# Altium footprint library PcbLib.PcbLib: 18 footprints (part 1 of 2)
Each footprint in its own frame and in the unit in brackets; x right, y up, seen from the top. Pads: shape width x height; smd on the part's side, far side on the other; paste and mask are expansions set on the pad; w line width, h text height; cw(c..) or ccw(c..) is an arc to the next point about the centre after c.
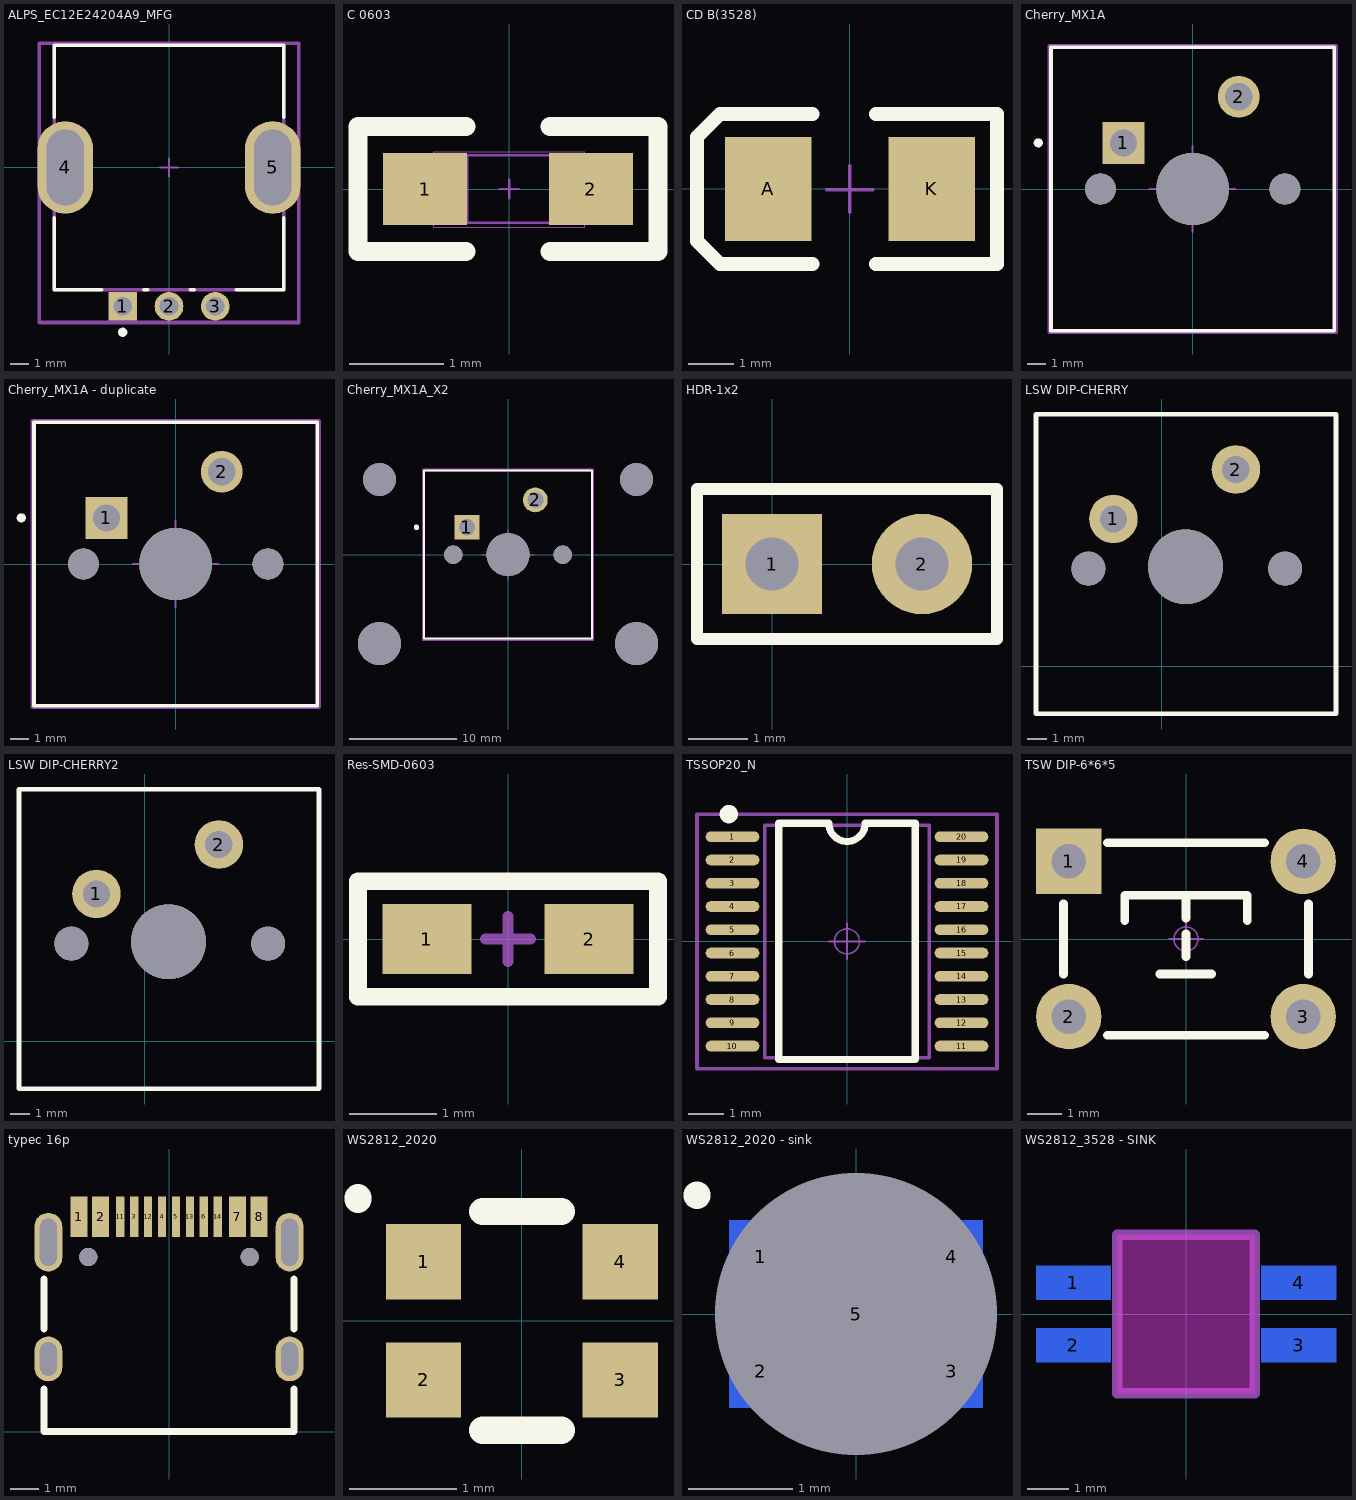
[diagram p0: the footprints below, top view; thin cyan lines are the x and y axes]

## ALPS_EC12E24204A9_MFG [mm]
pads (5):
  rect 1.55x1.55 hole 1 paste-1000 mask+0: 1(-2.5,-7.5)
  round 1.55 hole 1 paste-1000 mask+0: 2(0,-7.5) 3(2.5,-7.5)
  rrect100% 3x5 hole 4.1 slot 2 at 0 deg paste-1000 mask+0: 4(-5.6,0) 5(5.6,0)
Top Overlay:
  circle w0.25: c-2.5,-8.9 r0.125
  lines w0.2: -6.2,-2.725 -6.2,-6.6 -3.65,-6.6 ; -6.2,2.725 -6.2,6.6 6.2,6.6 6.2,2.725 ; -1.35,-6.6 -1.15,-6.6 ; 1.15,-6.6 1.35,-6.6 ; 3.65,-6.6 6.2,-6.6 6.2,-2.725
Mechanical 10:
  lines w0.2: -7,-8.375 7,-8.375 7,6.7 -7,6.7 -7,-8.375
Mechanical 12:
  lines w0.2: -6.2,-6.6 6.2,-6.6 6.2,6.6 -6.2,6.6 -6.2,-6.6
Mechanical 15:
  lines w0.1: -0.5,0 0.5,0 ; 0,-0.5 0,0.5
  lines w0.2: -7,-8.375 7,-8.375 7,6.7 -7,6.7 -7,-8.375
3D body "Enc_ALPS_EC12E24204A9_eec.STEP": height 0.25, standoff 0, extent -7,-8.375 7,6.7

## C 0603 [mil] "无极性贴片电容"
pads (2):
  rect 35x30 smd: 1(-35,0) 2(34,0)
Top Overlay:
  lines w8: -18,-26 -63,-26 -63,26 -18,26 ; 17,-26 62,-26 62,26 17,26
Mechanical 13:
  lines w0.39: -31.5,-16 31.5,-16 31.5,15.5 -31.5,15.5 -31.5,-16
Mechanical 15:
  lines w1: -17.5,-14 -17.5,14 ; -3.94,0 3.94,0 ; 0,-3.94 0,3.94 ; 17.5,-14 17.5,14 ; -32,-14 32,-14 32,14 -32,14 -32,-14
3D body "C 0603.STEP": height 31.89, standoff -0.39, extent -31.5,-16.14 31.5,16.14

## CD B(3528) [mil] "长3.5mm，宽2.8mm，厚1.9mm"
pads (2):
  rect 75x90 smd: A(-70.87,-0.01) K(70.86,-0.01)
Top Overlay:
  lines w12: -32.51,-65.01 -112.51,-65.01 -132.51,-45.01 -132.51,44.99 -112.51,64.99 -32.51,64.99 ; 22.49,-65.01 127.49,-65.01 127.49,64.99 22.49,64.99
Mechanical 15:
  lines w3: -20.01,-0.79 19.99,-0.79 ; -0.01,-20.01 -0.01,19.99
3D body "CD B(3528).STEP": height 74.84, standoff -0.3, extent -68.92,-55.12 68.91,55.11

## Cherry_MX1A [mil]
pads (6):
  rect 90.55x90.55 hole 59 paste-39370.1 mask+0: 1(-150,100)
  round 90.55 hole 59 paste-39370.1 mask+0: 2(100,200)
  round 67 hole 67 unplated paste-39370.1 mask+0: ""(-200,0) ""(200,0)
  round 157 hole 157 unplated paste-39370.1 mask+0: ""(0,0)
  round 3.15 hole 1.69 paste-39370.1 mask+0: ""(0,0)
Top Overlay:
  circle w9.84: c-334.65,100 r4.92
  lines w7.87: -307.09,-307.09 307.09,-307.09 307.09,307.09 -307.09,307.09 -307.09,-307.09
Mechanical 10:
  lines w7.87: -311.02,-311.02 311.02,-311.02 311.02,311.02 -311.02,311.02 -311.02,-311.02
Mechanical 12:
  lines w5.91: -307.09,-307.09 307.09,-307.09 307.09,307.09 -307.09,307.09 -307.09,-307.09
Mechanical 15:
  lines w3.94: -93.31,0 93.31,0 ; 0,-93.31 0,93.31
  lines w7.87: -311.02,-311.02 311.02,-311.02 311.02,311.02 -311.02,311.02 -311.02,-311.02
3D body "User Library-MX-Blue12.STEP": height 611.42, standoff -120.87, extent -309.06,-305.12 305.11,309.05

## Cherry_MX1A - duplicate [mil]
pads (6):
  rect 90.55x90.55 hole 59 paste-39370.1 mask+0: 1(-150,100)
  round 90.55 hole 59 paste-39370.1 mask+0: 2(100,200)
  round 67 hole 67 unplated paste-39370.1 mask+0: ""(-200,0) ""(200,0)
  round 157 hole 157 unplated paste-39370.1 mask+0: ""(0,0)
  round 3.15 hole 1.69 paste-39370.1 mask+0: ""(0,0)
Top Overlay:
  circle w9.84: c-334.65,100 r4.92
  lines w7.87: -307.09,-307.09 307.09,-307.09 307.09,307.09 -307.09,307.09 -307.09,-307.09
Mechanical 10:
  lines w7.87: -311.02,-311.02 311.02,-311.02 311.02,311.02 -311.02,311.02 -311.02,-311.02
Mechanical 12:
  lines w5.91: -307.09,-307.09 307.09,-307.09 307.09,307.09 -307.09,307.09 -307.09,-307.09
Mechanical 15:
  lines w3.94: -93.31,0 93.31,0 ; 0,-93.31 0,93.31
  lines w7.87: -311.02,-311.02 311.02,-311.02 311.02,311.02 -311.02,311.02 -311.02,-311.02
3D body "3dmodel.step": height 576.04, standoff -128.68, extent -305.39,-305.02 304.85,305.22

## Cherry_MX1A_X2 [mil]
pads (10):
  rect 90.55x90.55 hole 59 paste-39370.1 mask+0: 1(-150,100)
  round 90.55 hole 59 paste-39370.1 mask+0: 2(100,200)
  round 157 hole 157 unplated paste-39370.1 mask+0: ""(-470,-325) ""(0,0) ""(470,-325)
  round 120 hole 120 unplated paste-39370.1 mask+0: ""(-470,275) ""(470,275)
  round 67 hole 67 unplated paste-39370.1 mask+0: ""(-200,0) ""(200,0)
  round 3.15 hole 1.69 paste-39370.1 mask+0: ""(0,0)
Top Overlay:
  circle w9.84: c-334.65,100 r4.92
  lines w7.87: -307.09,-307.09 307.09,-307.09 307.09,307.09 -307.09,307.09 -307.09,-307.09
Mechanical 10:
  lines w7.87: -311.02,-311.02 311.02,-311.02 311.02,311.02 -311.02,311.02 -311.02,-311.02
Mechanical 12:
  lines w5.91: -307.09,-307.09 307.09,-307.09 307.09,307.09 -307.09,307.09 -307.09,-307.09
Mechanical 15:
  lines w3.94: -93.31,0 93.31,0 ; 0,-93.31 0,93.31
  lines w7.87: -311.02,-311.02 311.02,-311.02 311.02,311.02 -311.02,311.02 -311.02,-311.02
3D body "User Library-MX-Blue12.STEP": height 611.42, standoff -120.87, extent -309.06,-305.12 305.11,309.05
3D body "Cherry MX Stabilizer2.STEP": height 478.62, standoff -110.24, extent -606.3,-433.07 602.36,322.84

## HDR-1x2 [mm] "排针，2脚"
pads (2):
  rect 1.7x1.7 hole 0.9: 1(0,0)
  round 1.7 hole 0.9: 2(2.54,0)
Top Overlay:
  lines w0.2: -1.27,-1.27 -1.27,1.27 3.81,1.27 3.81,-1.27 -1.27,-1.27
3D body "HDR2.54-1P.STEP": height 8.5, standoff -3, extent 1.27,-1.27 3.81,1.27
3D body "HDR2.54-1P.STEP": height 8.5, standoff -3, extent -1.27,-1.27 1.27,1.27

## LSW DIP-CHERRY [mm]
pads (5):
  round 2.5 hole 1.4: 1(-2.489,7.595) 2(3.81,10.135)
  round 1.75 hole 1.75: ""(-3.785,5.029) ""(6.35,5.029)
  round 3.85 hole 3.85: ""(1.219,5.131)
Top Overlay:
  lines w0.254: -6.477,-2.438 8.966,-2.438 8.966,12.979 -6.477,12.979 -6.477,-2.438
3D body "User Library-MX-Blue.STEP": height 15.53, standoff -3.37, extent -6.604,-2.69 8.996,12.91

## LSW DIP-CHERRY2 [mm]
pads (5):
  round 2.5 hole 1.4: 1(-2.489,7.595) 2(3.81,10.135)
  round 1.75 hole 1.75: ""(-3.785,5.029) ""(6.35,5.029)
  round 3.85 hole 3.85: ""(1.219,5.131)
Top Overlay:
  lines w0.254: -6.477,-2.438 -6.477,12.979 8.966,12.979 8.966,-2.438 -6.477,-2.438
3D body "User Library-MX-Blue.STEP": height 15.53, standoff -3.37, extent -6.604,-2.69 8.996,12.91

## Res-SMD-0603 [mil] "1/10W贴片电阻"
pads (2):
  rect 40x31.5 smd: 1(-36.5,0) 2(36.5,0)
Top Overlay:
  lines w8: -67.5,-26 -67.5,26 67.5,26 67.5,-26 -67.5,-26
Mechanical 15:
  lines w5: -10,0 10,0 ; 0,-10 0,10
3D body "R 0603.STEP": height 15.79, standoff -0.13, extent -31.49,-15.74 31.5,15.75

## TSSOP20_N [mm] "6.5*6.4*1（长宽高）"
height 1.2
pads (20):
  oval 1.5x0.3 smd: 1(-3.2,2.925) 2(-3.2,2.275) 3(-3.2,1.625) 4(-3.2,0.975) 5(-3.2,0.325) 6(-3.2,-0.325) 7(-3.2,-0.975) 8(-3.2,-1.625) 9(-3.2,-2.275) 10(-3.2,-2.925) 11(3.2,-2.925) 12(3.2,-2.275) 13(3.2,-1.625) 14(3.2,-0.975) 15(3.2,-0.325) 16(3.2,0.325) 17(3.2,0.975) 18(3.2,1.625) 19(3.2,2.275) 20(3.2,2.925)
Top Overlay:
  circle w0.254: c-3.302,3.556 r0.13
  lines w0.2: -1.905,-3.3 1.905,-3.3 1.905,3.3 0.508,3.3 cw(c0,3.3) -0.508,3.302 -1.905,3.299 -1.905,-3.3
Mechanical 13:
  lines w0.1: -2.3,-3.25 2.3,-3.25 2.3,3.25 -2.3,3.25 -2.3,-3.25
Mechanical 15:
  circle w0.05: c0,0 r0.35
  lines w0.05: -0.5,0 0.5,0 ; 0,-0.5 0,0.5
  lines w0.1: -4.191,-3.556 -4.191,3.556 4.191,3.556 4.191,-3.556 -4.191,-3.556
3D body "TSSOP20.STEP": height 1.03, standoff -0.02, extent -3.202,-3.25 3.202,3.25

## TSW DIP-6*6*5 [mm] "6*6*5mm"
pads (4):
  rect 1.9x1.9 hole 1: 1(-3.4,2.25)
  round 1.9 hole 1: 2(-3.4,-2.25) 3(3.4,-2.25) 4(3.4,2.25)
Top Overlay:
  lines w0.254: -3.556,-1.016 -3.556,1.016 ; -2.286,-2.794 2.286,-2.794 ; -2.286,2.794 2.286,2.794 ; -1.778,0.533 -1.778,1.27 1.778,1.27 1.778,0.533 ; -0.762,-1.016 0.737,-1.016 ; 0,-0.508 0,0.152 ; 0,0.61 0,1.27 ; 3.556,-1.016 3.556,1.016
Bottom Overlay:
  lines w0.254: -2.286,-2.286 2.286,-2.286 ; -2.286,2.286 2.286,2.286
Mechanical 15:
  circle w0.05: c0,0 r0.35
  lines w0.05: -0.5,0 0.5,0 ; 0,-0.5 0,0.5
3D body "TSW DIP-6x6x5.STEP": height 4.95, standoff -3.45, extent -4.106,-3 4.106,3

## typec 16p [mm]
height 3.2
pads (18):
  rect 0.6x1.45 smd: 1(-3.225,7.695) 2(-2.45,7.695) 7(2.45,7.695) 8(3.225,7.695)
  rect 0.3x1.45 smd: 3(-1.25,7.695) 4(-0.25,7.695) 5(0.25,7.695) 6(1.25,7.695) 11(-1.75,7.695) 12(-0.75,7.695) 13(0.75,7.695) 14(1.75,7.695)
  oval 1x1.6 hole 0.6 slot 1.2 at 90 deg: ""(-4.32,2.6) ""(4.32,2.6)
  oval 1x2.1 hole 0.6 slot 1.7 at 90 deg: ""(-4.32,6.78) ""(4.32,6.78)
  round 0.65 hole 0.65 unplated: ""(-2.89,6.25) ""(2.89,6.25)
Top Overlay:
  lines w0.254: -4.47,1.524 -4.47,0 4.47,0 4.47,1.524 ; -4.47,3.683 -4.47,5.461 ; 4.47,3.683 4.47,5.461

## WS2812_2020 [mm]
pads (4):
  rect 0.7x0.7 smd: 1(-0.915,0.55) 2(-0.915,-0.55) 3(0.915,-0.55) 4(0.915,0.55)
Top Overlay:
  lines w0.254: -1.524,1.131 -1.524,1.143 ; -0.365,-1.016 0.365,-1.016 ; -0.365,1.016 0.365,1.016

## WS2812_2020 - sink [mm]
pads (5):
  rect 0.6x0.7 smd far side: 1(-0.915,0.55) 2(-0.915,-0.55) 3(0.915,-0.55) 4(0.915,0.55)
  oval 1x2.7 hole 2.7 square unplated: 5(0,0)
Top Overlay:
  lines w0.254: -1.524,1.131 -1.524,1.143 ; -0.365,-1.016 0.365,-1.016 ; -0.365,1.016 0.365,1.016

## WS2812_3528 - SINK [mm]
pads (4):
  rect 1.8x0.82 smd far side: 1(-2.71,0.75) 2(-2.71,-0.75) 3(2.71,-0.75) 4(2.71,0.75)
Bottom Overlay:
  lines w0.254: -2.413,1.893 -2.413,1.905 ; -1.8,-1.6 1.8,-1.6 ; -1.8,1.6 1.8,1.6
Keep-Out Layer:
  board cut-out: -1.651,1.905 1.651,1.905 1.651,-1.905 -1.651,-1.905
Mechanical 1:
  pour cut-out: -1.397,1.397
  lines w0.254: -1.651,-1.905 -1.651,1.905 1.651,1.905 1.651,-1.905 -1.651,-1.905